# EAGLE library part ER-OLED0.84-1 (library Sensors)
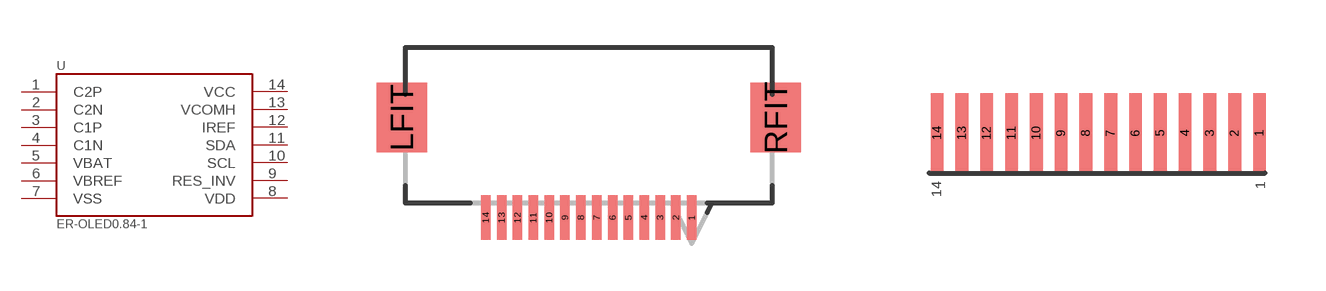
[diagram p4: symbol with the pads of MOLEX_52892-1433; footprints MOLEX_52892-1433, 0_62SMD]

Designator prefix -

## ER-OLED0.84-1MOLEX_INCORRECT  [MOLEX_52892-1433]
1  C2P
2  C2N
3  C1P
4  C1N
5  VBAT
6  VBREF
7  VSS
8  VDD
9  RES_INV
10  SCL
11  SDA
12  IREF
13  VCOMH
14  VCC

## ER-OLED0.84-1SMD  [0_62SMD]
Pads as for MOLEX_52892-1433

## Footprint MOLEX_52892-1433 (pad centres in mm)
smd 0.3 x 1.4: 1 3.25,2.896; 2 2.75,2.896; 3 2.25,2.896; 4 1.75,2.896; 5 1.25,2.896; 6 0.75,2.896; 7 0.25,2.896; 8 -0.25,2.896; 9 -0.75,2.896; 10 -1.25,2.896; 11 -1.75,2.896; 12 -2.25,2.896; 13 -2.75,2.896; 14 -3.25,2.896
smd 1.6 x 2.2: LFIT -5.9,6.046; RFIT 5.9,6.046

## Footprint 0_62SMD (pad centres in mm)
smd 0.32 x 2: 1 8.06,0; 2 7.44,0; 3 6.82,0; 4 6.2,0; 5 5.58,0; 6 4.96,0; 7 4.34,0; 8 3.72,0; 9 3.1,0; 10 2.48,0; 11 1.86,0; 12 1.24,0; 13 0.62,0; 14 0,0